# Altium footprint library 26013115.PcbLib: 1 footprints
Each footprint in its own frame and in the unit in brackets; x right, y up, seen from the top. Pads: shape width x height; smd on the part's side, far side on the other; paste and mask are expansions set on the pad; w line width, h text height; cw(c..) or ccw(c..) is an arc to the next point about the centre after c.
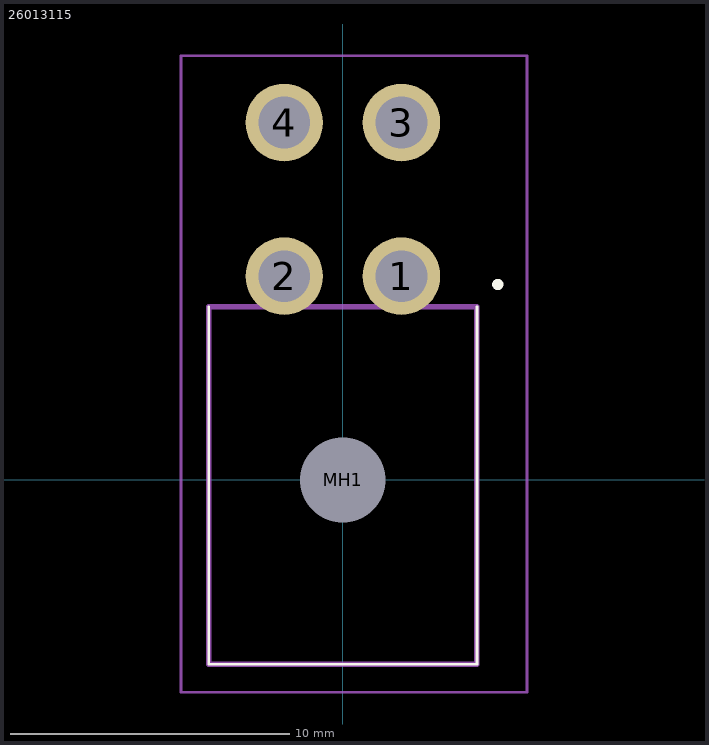
[diagram p0: the footprint, top view; thin cyan lines are the x and y axes]

## 26013115 [mm]
pads (5):
  round 2.775 hole 1.85: 1(2.1,7.3) 2(-2.1,7.3) 3(2.1,12.8) 4(-2.1,12.8)
  round 1.525 hole 3.05 unplated: MH1(0,0)
Top Overlay:
  lines w0.1: -4.8,6.2 -4.8,-6.6 4.8,-6.6 4.8,6.2
  lines w0.3: 5.5,7 cw(c5.55,7) 5.6,7 cw(c5.55,7) 5.5,7
Mechanical 13:
  lines w0.2: -4.8,-6.6 -4.8,6.2 4.8,6.2 4.8,-6.6 -4.8,-6.6
Mechanical 15:
  lines w0.1: -5.8,-7.6 -5.8,15.188 6.6,15.188 6.6,-7.6 -5.8,-7.6
3D body "26013115.stp": height 11.5, standoff -3.5, extent -4.8,-6.5 5.2,13.435